# Altium schematic symbol library NETTIE.SchLib: 1 symbol
Pins are listed as number, name and electrical type; pins without a type are passive.

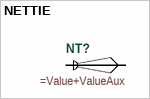
[diagram p0: symbol NETTIE]

## NETTIE
designator NT?
=Description
pins: 1, 2